# EAGLE library part SN65HVD1050 (library TI)
SN65HVD1050 - EMC Optimized CAN Transceiever Datasheet: http://www.ti.com/lit/ds/symlink/sn65hvd1050.pdf
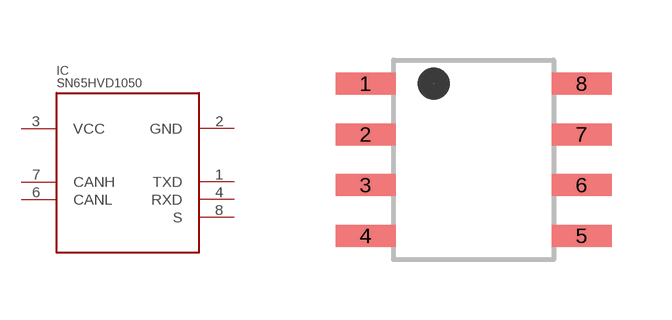
[diagram p17: symbol with the pads of D_(R-PDSO-G8); footprint D_(R-PDSO-G8)]

Designator prefix IC

## SN65HVD1050 (PARTNO: SN65HVD1050D)  [D_(R-PDSO-G8)]
1  TXD  in
2  GND  pwr
3  VCC  pwr
4  RXD  out
6  CANL
7  CANH
8  S  in

## Footprint D_(R-PDSO-G8) (pad centres in mm)
DUB (R-PDSO-G8) - aka SOP-8 from http://www.ti.com/lit/ds/symlink/sn65hvd1050.pdf
smd 1.5 x 0.55: 1 -2.7,1.905; 2 -2.7,0.635; 3 -2.7,-0.635; 4 -2.7,-1.905; 5 2.7,-1.905; 6 2.7,-0.635; 7 2.7,0.635; 8 2.7,1.905